# EAGLE library part X__JST_SH_5_90° (library connector)
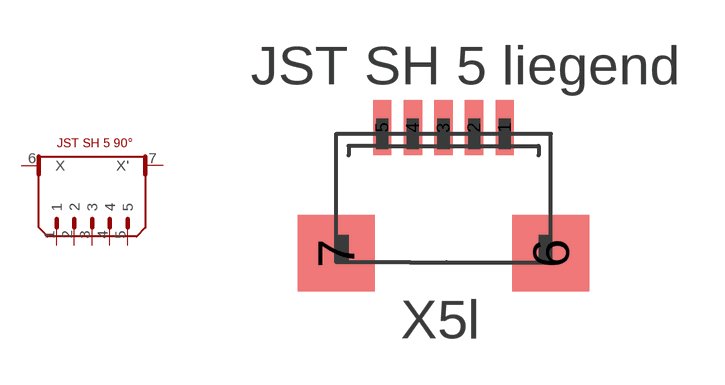
[diagram p1: symbol with the pads of JST_SH_5_90°; footprint JST_SH_5_90°]

Designator prefix -

## X__JST_SH_5_90°  [JST_SH_5_90°]
1  1
2  2
3  3
4  4
5  5
6  X
7  X'

## Footprint JST_SH_5_90° (pad centres in mm)
smd 0.6 x 1.8: 1 2,2.1; 2 1,2.1; 3 0,2.1; 4 -1,2.1; 5 -2,2.1
smd 2.5 x 2.5: 6 3.5,-2; 7 -3.5,-2